# Altium integrated library Analog Devices Data Converters Analog-to-Digital Converters.IntLib: 2404 symbols (part 289 of 346)
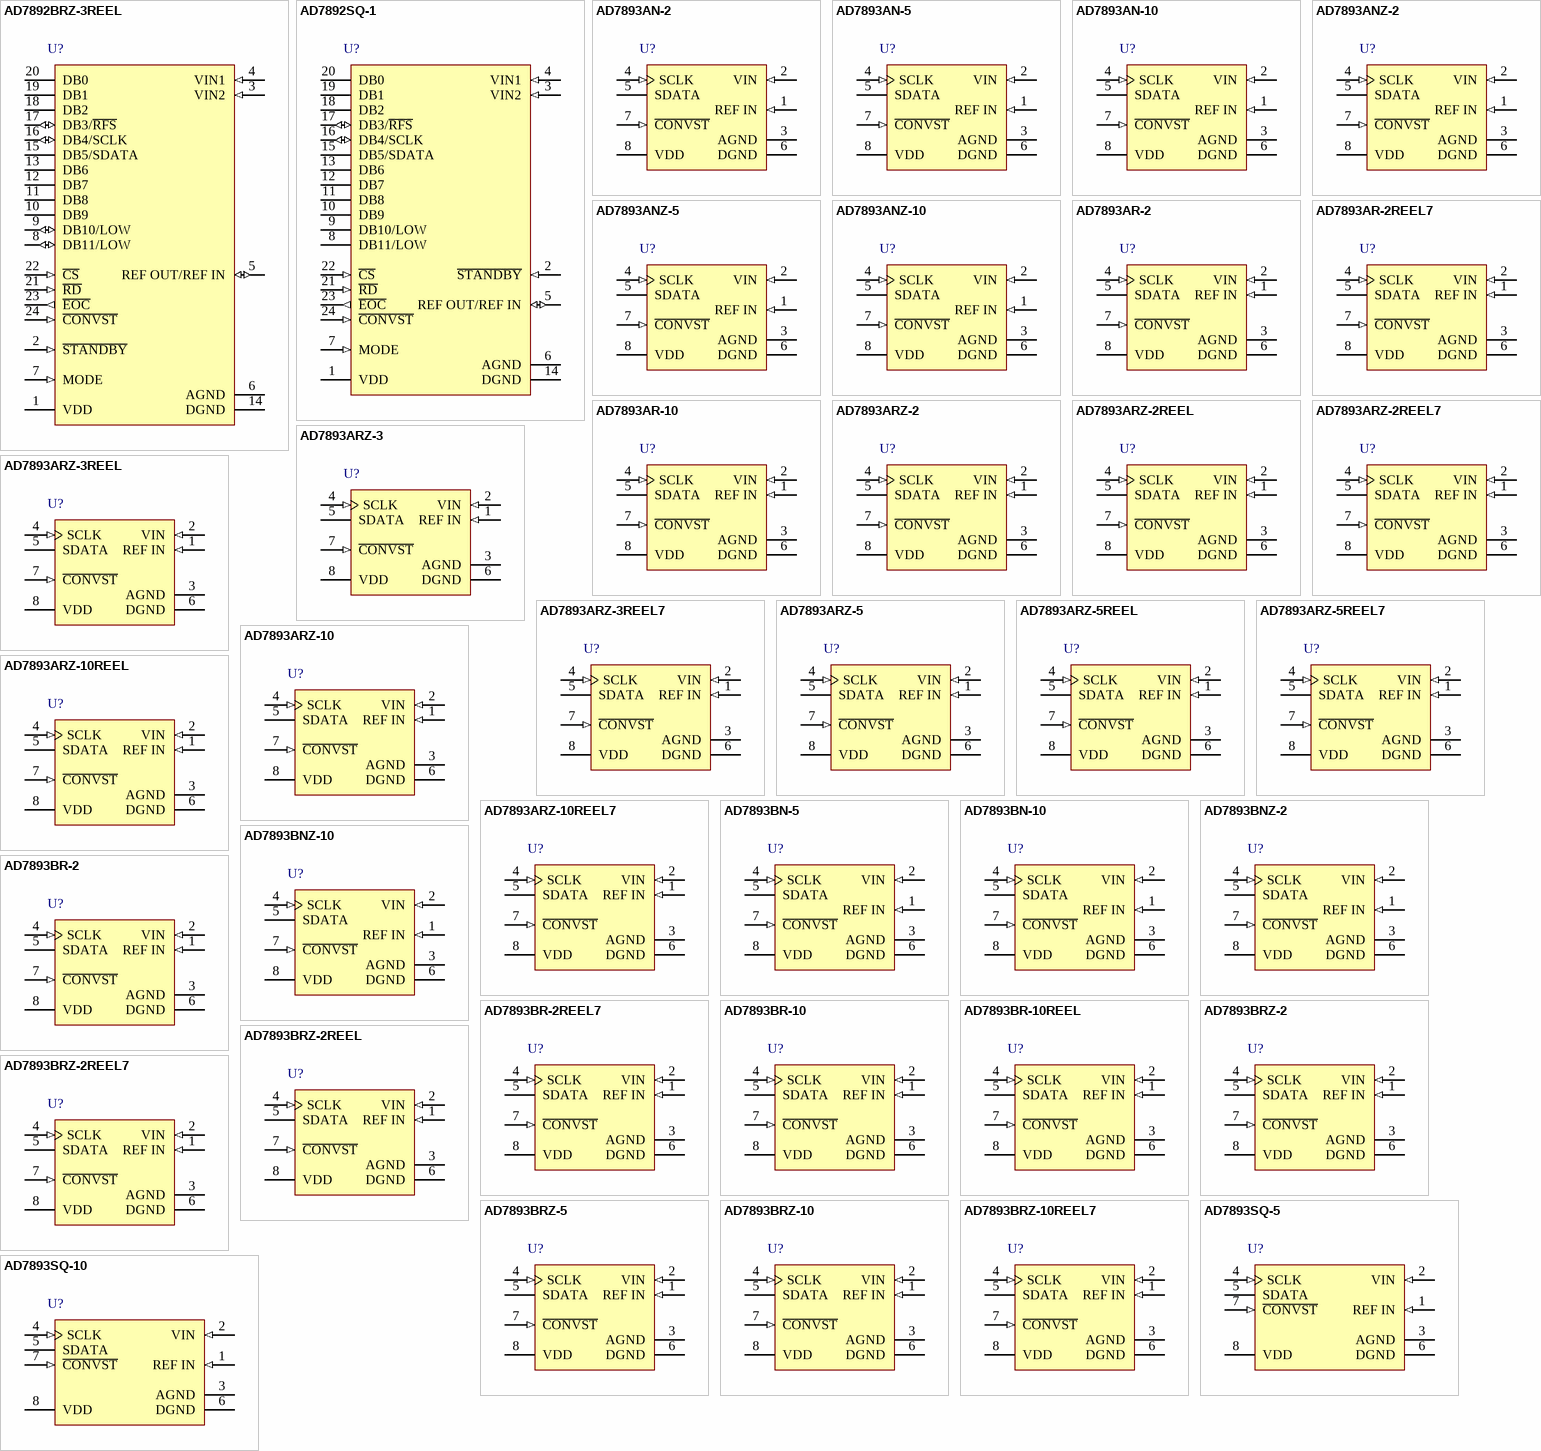
[diagram p310: symbols AD7892BRZ-3REEL to AD7893SQ-10]

## AD7892BRZ-3REEL
designator U?
Single 12-Bit Analog-to-Digital Converter with Parallel, Serial Interface, Single Supply, LC2MOS, 600KSPS, -40 to +85 degC, RW-24, Pb-Free, Reel; Generic Part Number: AD7892-3-600; Manufacturer: Analog Devices; PartNumber: AD7892BRZ-3REEL; Resolution (Bits): 12; Channels: 1; Throughput Rate (SPS): 600K; Interface: Par, Ser; DatasheetVersion: Rev.C; PackageVersion: 060706-A; PackageReference: RW-24; PackageDescription: 24-Lead Standard Small Outline Package [SOIC_W]; Supplier 1: Digi-Key; Supplier Part Number 1: AD7892BRZ-3REEL-ND; Supplier 2: Newark; Supplier Part Number 2: 59K5883; Supplier 3: Mouser; Supplier Part Number 3: 584-AD7892BRZ-3R; RoHS: Y; Packing: Reel; Mounting Technology: Surface Mount; Code_JEDEC: MS-013-AD; ComponentLink1Description: Manufacturer URL; ComponentLink1URL: http://www.analog.com/en/index.html; ComponentLink2Description: Datasheet; ComponentLink2URL: http://www.analog.com/static/imported-files/data_sheets/AD7892.pdf; ComponentLink3Description: Package Specification; ComponentLink3URL: http://www.analog.com/static/imported-files/packages/33665150946139RW_24.pdf; ComponentLink4Description: Product URL; ComponentLink4URL: http://www.analog.com/en/analog-to-digital-converters/ad-converters/ad7892/products/product.html
footprint RW-24_N (SOIC, 24-Leads, Body 15.4x7.5mm, Pitch 1.27mm, IPC Medium Density)
footprint RW-24_L (SOIC, 24-Leads, Body 15.4x7.5mm, Pitch 1.27mm, IPC High Density)
footprint RW-24_M (SOIC, 24-Leads, Body 15.4x7.5mm, Pitch 1.27mm, IPC Low Density)
pins: 1 VDD (power) "Positive Supply Voltage, +5 V +/- 5%.", 2 ~{STANDBY} (in) "Standby Input. Logic Input. With this input at a logic high, the part is in its normal operating mode; with this input at a logic low, the part is placed in its standby or power-down mode, which reduces power consumption to (See Datasheet)", 3 VIN2 (in) "Analog Input 2. For the AD7892-1, this input either connects to AGND or to VIN1 to determine the analog input voltage range. With VIN2 connected to AGND on the AD7892-1, the analog input range at the VIN1 input is +/-10 V. (See Datasheet)", 4 VIN1 (in) "Analog Input 1. The analog input voltage to be converted by the AD7892 is applied to this input.For the AD7892-1, the input voltage range is either +/-5 V or +/-10 V depending on where the VIN2 input is connected. For the (See Datasheet)", 5 REF OUT/REF IN (io) "Voltage Reference Output/Input. The part can be used with either its own internal reference or with an external reference source. The on-chip +2.5 V reference is provided at this pin. When using this internal reference as (See Datasheet)", 6 AGND (power) "Analog Ground. Ground reference for track/hold, comparator and DAC.", 7 MODE (in) "Mode. Control input which determines the interface mode for the AD7892. With this pin at a logic  low, the device is in its serial interface mode; with this pin at a logic high, the device is in its parallel interface mode,", 8 DB11/LOW (io) "Data Bit 11/Test Pin. When the device is in its parallel mode, this pin is Data Bit 11 (MSB), a three-state TTL-compatible output. When the device is in its serial mode, this is used as a test pin which must be tied to a (See Datasheet)", 9 DB10/LOW (io) "Data Bit 10/Test Pin. When the device is in its parallel mode, this pin is Data Bit 10, a three-state TTL-compatible output. When the device is in its serial mode, this is used as a test pin which must be tied to a logic low (See Datasheet)", 10 DB9 (hiz) "Data Bit 9. Three-state TTL-compatible output. This output should be left unconnected when the device is in its serial mode.", 11 DB8 (hiz) "Data Bit 8. Three-state TTL-compatible output. This output should be left unconnected when the device is in its serial mode.", 12 DB7 (hiz) "Data Bit 7. Three-state TTL-compatible output. This output should be left unconnected when the device is in its serial mode.", 13 DB6 (hiz) "Data Bit 6. Three-state TTL-compatible output. This output should be left unconnected when the device is in its serial mode", 14 DGND (power) "Digital Ground. Ground reference for digital circuitry.", 15 DB5/SDATA (hiz) "Data Bit 5/Serial Data. When the device is in its parallel mode, this pin is Data Bit 5, a three-state TTL-compatible output. When the device is in its serial mode, this becomes the serial data output line. Sixteen bits of (See Datasheet)", 16 DB4/SCLK (io) "Data Bit 4/Serial Clock. When the device is in its parallel mode, this pin is Data Bit 4, a three-state TTL-compatible output. When the device is in its serial mode, this becomes the serial clock pin,SCLK. SCLK is an input (See Datasheet)", 17 DB3/~{RFS} (io) "Data Bit 3/Receive Frame Synchronization. When the device is in its parallel mode, this pin is Data Bit 3, a three-state TTL-compatible output. When the device is in its serial mode, this becomes the receive frame (See Datasheet)", 18 DB2 (hiz) "Data Bit 2. Three-state TTL-compatible output. This output should be left unconnected when the device is in its serial mode.", 19 DB1 (hiz) "Data Bit 1. Three-state TTL-compatible output. This output should be left unconnected when the device is in its serial mode.", 20 DB0 (hiz) "Data Bit 0 (LSB). Three-state TTL-compatible output. Output coding is two's complement for AD7892-1 and AD7892-3 and straight (natural) binary for AD7892-2. This output should be left unconnected when the device is in its (See Datasheet)", 21 ~{RD} (in) "Read. Active low logic input which is used in conjunction with C\S\ low to enable the data outputs.", 22 ~{CS} (in) "Chip Select. Active low logic input which is used in conjunction with R\D\ to enable the data outputs.", 23 ~{EOC} (out) "End-of-Conversion. Active low logic output indicating converter status. The end of conversion is signified by a low going pulse on this line. The duration of this E\O\C\ pulse is nominally 100 ns.", 24 ~{CONVST} (in) "Convert Start. Logic Input. A low-to-high transition on this input puts the track/hold into its hold mode and starts conversion."

## AD7892SQ-1
designator U?
Single 12-Bit Analog-to-Digital Converter with Parallel, Serial Interface, Single Supply, 500KSPS, -55 to +125 degC, Q-24-1, Tube; Generic Part Number: AD7892-1-500; Manufacturer: Analog Devices; PartNumber: AD7892SQ-1; Resolution (Bits): 12; Channels: 1; Throughput Rate (SPS): 500K; Interface: Par, Ser; DatasheetVersion: Rev.C; PackageVersion: 100808-A; PackageReference: Q-24-1; PackageDescription: 24-Lead Ceramic Dual In-Line Package [CERDIP]; Supplier 1: Digi-Key; Supplier Part Number 1: AD7892SQ-1-ND; Supplier 2: Newark; Supplier Part Number 2: 09B6250; Supplier 3: Mouser; Supplier Part Number 3: 584-AD7892SQ-1; RoHS: N; Packing: Tube; Mounting Technology: Through-hole; ComponentLink1Description: Manufacturer URL; ComponentLink1URL: http://www.analog.com/en/index.html; ComponentLink2Description: Datasheet; ComponentLink2URL: http://www.analog.com/static/imported-files/data_sheets/AD7892.pdf; ComponentLink3Description: Package Specification; ComponentLink3URL: http://www.analog.com/static/imported-files/packages/PKG_PDF/CERDIP(Q)/Q_24_1.pdf; ComponentLink4Description: Product URL; ComponentLink4URL: http://www.analog.com/en/analog-to-digital-converters/ad-converters/ad7892/products/product.html
footprint Q-24-1 (DIP, 24-Leads, Row Spacing 7.62mm, Pitch 2.54mm, Body 31.9x6.7mm)
pins: 1 VDD (power) "Positive Supply Voltage, +5 V +/- 5%.", 2 ~{STANDBY} (in) "Standby Input. Logic Input. With this input at a logic high, the part is in its normal operating mode; with this input at a logic low, the part is placed in its standby or power-down mode, which reduces power consumption to (See Datasheet)", 3 VIN2 (in) "Analog Input 2. For the AD7892-1, this input either connects to AGND or to VIN1 to determine the analog input voltage range. With VIN2 connected to AGND on the AD7892-1, the analog input range at the VIN1 input is +/-10 V. (See Datasheet)", 4 VIN1 (in) "Analog Input 1. The analog input voltage to be converted by the AD7892 is applied to this input.For the AD7892-1, the input voltage range is either +/-5 V or +/-10 V depending on where the VIN2 input is connected. For the (See Datasheet)", 5 REF OUT/REF IN (io) "Voltage Reference Output/Input. The part can be used with either its own internal reference or with an external reference source. The on-chip +2.5 V reference is provided at this pin. When using this internal reference as (See Datasheet)", 6 AGND (power) "Analog Ground. Ground reference for track/hold, comparator and DAC.", 7 MODE (in) "Mode. Control input which determines the interface mode for the AD7892. With this pin at a logic low, the device is in its serial interface mode; with this pin at a logic high, the device is in its parallel interface mode.", 8 DB11/LOW (hiz) "Data Bit 11/Test Pin. When the device is in its parallel mode, this pin is Data Bit 11 (MSB), a three-state TTL-compatible output. When the device is in its serial mode, this is used as a test pin which must be tied to a (See Datasheet)", 9 DB10/LOW (hiz) "Data Bit 10/Test Pin. When the device is in its parallel mode, this pin is Data Bit 10, a three-state TTL-compatible output. When the device is in its serial mode, this is used as a test pin which must be tied to a logic low (See Datasheet)", 10 DB9 (hiz) "Data Bit 9. Three-state TTL-compatible output. This output should be left unconnected when the device is in its serial mode.", 11 DB8 (hiz) "Data Bit 8. Three-state TTL-compatible output. This output should be left unconnected when the device is in its serial mode.", 12 DB7 (hiz) "Data Bit 7. Three-state TTL-compatible output. This output should be left unconnected when the device is in its serial mode.", 13 DB6 (hiz) "Data Bit 6. Three-state TTL-compatible output. This output should be left unconnected when the device is in its serial mode.", 14 DGND (power) "Digital Ground. Ground reference for digital circuitry.", 15 DB5/SDATA (hiz) "Data Bit 5/Serial Data. When the device is in its parallel mode, this pin is Data Bit 5, a three-stateTTL-compatible output. When the device is in its serial mode, this becomes the serial data output line. Sixteen bits of (See Datasheet)", 16 DB4/SCLK (io) "Data Bit 4/Serial Clock. When the device is in its parallel mode, this pin is Data Bit 4, a three-state TTL-compatible output. When the device is in its serial mode, this becomes the serial clock pin, SCLK. SCLK is an input (See Datasheet)", 17 DB3/~{RFS} (io) "Data Bit 3/Receive Frame Synchronization. When the device is in its parallel mode, this pin is Data Bit 3, a three-state TTL-compatible output. When the device is in its serial mode, this becomes the receive frame (See Datasheet)", 18 DB2 (hiz) "Data Bit 2. Three-state TTL-compatible output. This output should be left unconnected when the device is in its serial mode.", 19 DB1 (hiz) "Data Bit 1. Three-state TTL-compatible output. This output should be left unconnected when the device is in its serial mode.", 20 DB0 (hiz) "Data Bit 0 (LSB). Three-state TTL-compatible output. Output coding is two’s complement for AD7892-1 and AD7892-3 and straight (natural) binary for AD7892-2. This output should be left unconnected when the device is in its (See Datasheet)", 21 ~{RD} (in) "Read. Active low logic input which is used in conjunction with C\S\ low to enable the data outputs.", 22 ~{CS} (in) "Chip Select. Active low logic input which is used in conjunction with R\D\ to enable the data outputs.", 23 ~{EOC} (out) "End-of-Conversion. Active low logic output indicating converter status. The end of conversion is signified by a low going pulse on this line. The duration of this E\O\C\ pulse is nominally 100 ns.", 24 ~{CONVST} (in) "Convert Start. Logic Input. A low-to-high transition on this input puts the track/hold into its hold mode and starts conversion."

## AD7893AN-2
designator U?
Single 12-Bit Analog-to-Digital Converter with Serial Interface, 6 us, LC2MOS, 117KSPS, 0 to +70 degC, N-8, Tube; Generic Part Number: AD7893; Manufacturer: Analog Devices; PartNumber: AD7893AN-2; Resolution (Bits): 12; Channels: 1; Throughput Rate (SPS): 117K; Interface: Ser; DatasheetVersion: Rev.E; PackageVersion: 070606-A; PackageReference: N-8; PackageDescription: 8-Lead Plastic Dual In-Line Package [PDIP] Narrow Body; Supplier 1: Digi-Key; Supplier Part Number 1: AD7893AN-2-ND; RoHS: N; Packing: Tube; Mounting Technology: Through-hole; Code_JEDEC: MS-001; ComponentLink1Description: Manufacturer URL; ComponentLink1URL: http://www.analog.com/en/index.html; ComponentLink2Description: Datasheet; ComponentLink2URL: http://www.analog.com/static/imported-files/data_sheets/AD7893.pdf; ComponentLink3Description: Package Specification; ComponentLink3URL: http://www.analog.com/static/imported-files/packages/PKG_PDF/PDIP(N)/N_8.pdf; ComponentLink4Description: Product URL; ComponentLink4URL: http://www.analog.com/en/analog-to-digital-converters/ad-converters/ad7893/products/product.html
footprint N-8 (DIP, 8-Leads, Row Spacing 7.62mm, Pitch 2.54mm, Body 9.6x6.6mm)
pins: 1 REF IN (in) "Voltage Reference Input. An external reference source should be connected to this pin to provide the reference voltage for the AD7893conversion process. The REF IN input is buffered on-chip. The nominal reference voltage (See Datasheet)", 2 VIN (in) "Analog Input Channel. The analog input range is +/-10 V (AD7893-10), +/-2.5 V (AD7893-3), 0 V to +5 V (AD7893-5) and 0 V to +2.5 V (AD7893-2).", 3 AGND (power) "Analog Ground. Ground reference for track/hold, comparator and DAC.", 4 SCLK (in) "Serial Clock Input. An external serial clock is applied to this input to obtain serial data from the AD7893. A new serial data bit is clocked out on the rising edge of this serial clock, and data is valid on the falling edge.(See Datasheet)", 5 SDATA (hiz) "Serial Data Output. Serial data from the AD7893 is provided at this output. The serial data is clocked out by the rising edge of SCLK and is valid on the falling edge of SCLK. Sixteen bits of serial data are provided with (See Datasheet)", 6 DGND (power) "Digital Ground. Ground reference for digital circuitry.", 7 ~{CONVST} (in) "Convert Start. Edge-triggered logic input. On the falling edge of this input, the serial clock counter is reset to zero. On the rising edge of this input, the track/hold goes into its hold mode and conversion is initiated.", 8 VDD (power) "Positive supply voltage, +5 V +/- 5%."

## AD7893AN-5
designator U?
Single 12-Bit Analog-to-Digital Converter with Serial Interface, 6 us, LC2MOS, 117KSPS, -40 to +85 degC, N-8, Tube; Generic Part Number: AD7893; Manufacturer: Analog Devices; PartNumber: AD7893AN-5; Resolution (Bits): 12; Channels: 1; Throughput Rate (SPS): 117K; Interface: Ser; DatasheetVersion: Rev.E; PackageVersion: 070606-A; PackageReference: N-8; PackageDescription: 8-Lead Plastic Dual In-Line Package [PDIP] Narrow Body; Supplier 1: Digi-Key; Supplier Part Number 1: AD7893AN-5-ND; Supplier 2: Mouser; Supplier Part Number 2: 584-AD7893AN-5; RoHS: N; Packing: Tube; Mounting Technology: Through-hole; Code_JEDEC: MS-001; ComponentLink1Description: Manufacturer URL; ComponentLink1URL: http://www.analog.com/en/index.html; ComponentLink2Description: Datasheet; ComponentLink2URL: http://www.analog.com/static/imported-files/data_sheets/AD7893.pdf; ComponentLink3Description: Package Specification; ComponentLink3URL: http://www.analog.com/static/imported-files/packages/PKG_PDF/PDIP(N)/N_8.pdf; ComponentLink4Description: Product URL; ComponentLink4URL: http://www.analog.com/en/analog-to-digital-converters/ad-converters/ad7893/products/product.html
footprint N-8 (DIP, 8-Leads, Row Spacing 7.62mm, Pitch 2.54mm, Body 9.6x6.6mm)
pins: 1 REF IN (in) "Voltage Reference Input. An external reference source should be connected to this pin to provide the reference voltage for the AD7893conversion process. The REF IN input is buffered on-chip. The nominal reference voltage (See Datasheet)", 2 VIN (in) "Analog Input Channel. The analog input range is +/-10 V (AD7893-10), +/-2.5 V (AD7893-3), 0 V to +5 V (AD7893-5) and 0 V to +2.5 V (AD7893-2).", 3 AGND (power) "Analog Ground. Ground reference for track/hold, comparator and DAC.", 4 SCLK (in) "Serial Clock Input. An external serial clock is applied to this input to obtain serial data from the AD7893. A new serial data bit is clocked out on the rising edge of this serial clock, and data is valid on the falling edge.(See Datasheet)", 5 SDATA (hiz) "Serial Data Output. Serial data from the AD7893 is provided at this output. The serial data is clocked out by the rising edge of SCLK and is valid on the falling edge of SCLK. Sixteen bits of serial data are provided with (See Datasheet)", 6 DGND (power) "Digital Ground. Ground reference for digital circuitry.", 7 ~{CONVST} (in) "Convert Start. Edge-triggered logic input. On the falling edge of this input, the serial clock counter is reset to zero. On the rising edge of this input, the track/hold goes into its hold mode and conversion is initiated.", 8 VDD (power) "Positive supply voltage, +5 V +/- 5%."

## AD7893AN-10
designator U?
Single 12-Bit Analog-to-Digital Converter with Serial Interface, 6 us, LC2MOS, 117KSPS, -40 to +85 degC, N-8, Tube; Generic Part Number: AD7893; Manufacturer: Analog Devices; PartNumber: AD7893AN-10; Resolution (Bits): 12; Channels: 1; Throughput Rate (SPS): 117K; Interface: Ser; DatasheetVersion: Rev.E; PackageVersion: 070606-A; PackageReference: N-8; PackageDescription: 8-Lead Plastic Dual In-Line Package [PDIP] Narrow Body; Supplier 1: Digi-Key; Supplier Part Number 1: AD7893AN-10-ND; Supplier 2: Newark; Supplier Part Number 2: 05F7652; Supplier 3: Mouser; Supplier Part Number 3: 584-AD7893AN-10; RoHS: N; Packing: Tube; Mounting Technology: Through-hole; Code_JEDEC: MS-001; ComponentLink1Description: Manufacturer URL; ComponentLink1URL: http://www.analog.com/en/index.html; ComponentLink2Description: Datasheet; ComponentLink2URL: http://www.analog.com/static/imported-files/data_sheets/AD7893.pdf; ComponentLink3Description: Package Specification; ComponentLink3URL: http://www.analog.com/static/imported-files/packages/PKG_PDF/PDIP(N)/N_8.pdf; ComponentLink4Description: Product URL; ComponentLink4URL: http://www.analog.com/en/analog-to-digital-converters/ad-converters/ad7893/products/product.html
footprint N-8 (DIP, 8-Leads, Row Spacing 7.62mm, Pitch 2.54mm, Body 9.6x6.6mm)
pins: 1 REF IN (in) "Voltage Reference Input. An external reference source should be connected to this pin to provide the reference voltage for the AD7893conversion process. The REF IN input is buffered on-chip. The nominal reference voltage (See Datasheet)", 2 VIN (in) "Analog Input Channel. The analog input range is +/-10 V (AD7893-10), +/-2.5 V (AD7893-3), 0 V to +5 V (AD7893-5) and 0 V to +2.5 V (AD7893-2).", 3 AGND (power) "Analog Ground. Ground reference for track/hold, comparator and DAC.", 4 SCLK (in) "Serial Clock Input. An external serial clock is applied to this input to obtain serial data from the AD7893. A new serial data bit is clocked out on the rising edge of this serial clock, and data is valid on the falling edge.(See Datasheet)", 5 SDATA (hiz) "Serial Data Output. Serial data from the AD7893 is provided at this output. The serial data is clocked out by the rising edge of SCLK and is valid on the falling edge of SCLK. Sixteen bits of serial data are provided with (See Datasheet)", 6 DGND (power) "Digital Ground. Ground reference for digital circuitry.", 7 ~{CONVST} (in) "Convert Start. Edge-triggered logic input. On the falling edge of this input, the serial clock counter is reset to zero. On the rising edge of this input, the track/hold goes into its hold mode and conversion is initiated.", 8 VDD (power) "Positive supply voltage, +5 V +/- 5%."

## AD7893ANZ-2
designator U?
Single 12-Bit Analog-to-Digital Converter with Serial Interface, 6 us, LC2MOS, 117KSPS, 0 to +70 degC, N-8, Pb-Free, Tube; Generic Part Number: AD7893; Manufacturer: Analog Devices; PartNumber: AD7893ANZ-2; Resolution (Bits): 12; Channels: 1; Throughput Rate (SPS): 117K; Interface: Ser; DatasheetVersion: Rev.E; PackageVersion: 070606-A; PackageReference: N-8; PackageDescription: 8-Lead Plastic Dual In-Line Package [PDIP] Narrow Body; Supplier 1: Digi-Key; Supplier Part Number 1: AD7893ANZ-2-ND; Supplier 2: Farnell; Supplier Part Number 2: 2312725; Supplier 3: Newark; Supplier Part Number 3: 12M9001; Supplier 4: Mouser; Supplier Part Number 4: 584-AD7893ANZ-2; RoHS: Y; Packing: Tube; Mounting Technology: Through-hole; Code_JEDEC: MS-001; ComponentLink1Description: Manufacturer URL; ComponentLink1URL: http://www.analog.com/en/index.html; ComponentLink2Description: Datasheet; ComponentLink2URL: http://www.analog.com/static/imported-files/data_sheets/AD7893.pdf; ComponentLink3Description: Package Specification; ComponentLink3URL: http://www.analog.com/static/imported-files/packages/PKG_PDF/PDIP(N)/N_8.pdf; ComponentLink4Description: Product URL; ComponentLink4URL: http://www.analog.com/en/analog-to-digital-converters/ad-converters/ad7893/products/product.html
footprint N-8 (DIP, 8-Leads, Row Spacing 7.62mm, Pitch 2.54mm, Body 9.6x6.6mm)
pins: 1 REF IN (in) "Voltage Reference Input. An external reference source should be connected to this pin to provide the reference voltage for the AD7893conversion process. The REF IN input is buffered on-chip. The nominal reference voltage (See Datasheet)", 2 VIN (in) "Analog Input Channel. The analog input range is +/-10 V (AD7893-10), +/-2.5 V (AD7893-3), 0 V to +5 V (AD7893-5) and 0 V to +2.5 V (AD7893-2).", 3 AGND (power) "Analog Ground. Ground reference for track/hold, comparator and DAC.", 4 SCLK (in) "Serial Clock Input. An external serial clock is applied to this input to obtain serial data from the AD7893. A new serial data bit is clocked out on the rising edge of this serial clock, and data is valid on the falling edge.(See Datasheet)", 5 SDATA (hiz) "Serial Data Output. Serial data from the AD7893 is provided at this output. The serial data is clocked out by the rising edge of SCLK and is valid on the falling edge of SCLK. Sixteen bits of serial data are provided with (See Datasheet)", 6 DGND (power) "Digital Ground. Ground reference for digital circuitry.", 7 ~{CONVST} (in) "Convert Start. Edge-triggered logic input. On the falling edge of this input, the serial clock counter is reset to zero. On the rising edge of this input, the track/hold goes into its hold mode and conversion is initiated.", 8 VDD (power) "Positive supply voltage, +5 V +/- 5%."

## AD7893ANZ-5
designator U?
Single 12-Bit Analog-to-Digital Converter with Serial Interface, 6 us, LC2MOS, 117KSPS, -40 to +85 degC, N-8, Pb-Free, Tube; Generic Part Number: AD7893; Manufacturer: Analog Devices; PartNumber: AD7893ANZ-5; Resolution (Bits): 12; Channels: 1; Throughput Rate (SPS): 117K; Interface: Ser; DatasheetVersion: Rev.E; PackageVersion: 070606-A; PackageReference: N-8; PackageDescription: 8-Lead Plastic Dual In-Line Package [PDIP] Narrow Body; Supplier 1: Digi-Key; Supplier Part Number 1: AD7893ANZ-5-ND; Supplier 2: Mouser; Supplier Part Number 2: 584-AD7893ANZ-5; RoHS: Y; Packing: Tube; Mounting Technology: Through-hole; Code_JEDEC: MS-001; ComponentLink1Description: Manufacturer URL; ComponentLink1URL: http://www.analog.com/en/index.html; ComponentLink2Description: Datasheet; ComponentLink2URL: http://www.analog.com/static/imported-files/data_sheets/AD7893.pdf; ComponentLink3Description: Package Specification; ComponentLink3URL: http://www.analog.com/static/imported-files/packages/PKG_PDF/PDIP(N)/N_8.pdf; ComponentLink4Description: Product URL; ComponentLink4URL: http://www.analog.com/en/analog-to-digital-converters/ad-converters/ad7893/products/product.html
footprint N-8 (DIP, 8-Leads, Row Spacing 7.62mm, Pitch 2.54mm, Body 9.6x6.6mm)
pins: 1 REF IN (in) "Voltage Reference Input. An external reference source should be connected to this pin to provide the reference voltage for the AD7893conversion process. The REF IN input is buffered on-chip. The nominal reference voltage (See Datasheet)", 2 VIN (in) "Analog Input Channel. The analog input range is +/-10 V (AD7893-10), +/-2.5 V (AD7893-3), 0 V to +5 V (AD7893-5) and 0 V to +2.5 V (AD7893-2).", 3 AGND (power) "Analog Ground. Ground reference for track/hold, comparator and DAC.", 4 SCLK (in) "Serial Clock Input. An external serial clock is applied to this input to obtain serial data from the AD7893. A new serial data bit is clocked out on the rising edge of this serial clock, and data is valid on the falling edge.(See Datasheet)", 5 SDATA (hiz) "Serial Data Output. Serial data from the AD7893 is provided at this output. The serial data is clocked out by the rising edge of SCLK and is valid on the falling edge of SCLK. Sixteen bits of serial data are provided with (See Datasheet)", 6 DGND (power) "Digital Ground. Ground reference for digital circuitry.", 7 ~{CONVST} (in) "Convert Start. Edge-triggered logic input. On the falling edge of this input, the serial clock counter is reset to zero. On the rising edge of this input, the track/hold goes into its hold mode and conversion is initiated.", 8 VDD (power) "Positive supply voltage, +5 V +/- 5%."

## AD7893ANZ-10
designator U?
Single 12-Bit Analog-to-Digital Converter with Serial Interface, 6 us, LC2MOS, 117KSPS, -40 to +85 degC, N-8, Pb-Free, Tube; Generic Part Number: AD7893; Manufacturer: Analog Devices; PartNumber: AD7893ANZ-10; Resolution (Bits): 12; Channels: 1; Throughput Rate (SPS): 117K; Interface: Ser; DatasheetVersion: Rev.E; PackageVersion: 070606-A; PackageReference: N-8; PackageDescription: 8-Lead Plastic Dual In-Line Package [PDIP] Narrow Body; Supplier 1: Digi-Key; Supplier Part Number 1: AD7893ANZ-10-ND; Supplier 2: Newark; Supplier Part Number 2: 12M9000; Supplier 3: Mouser; Supplier Part Number 3: 584-AD7893ANZ-10; RoHS: Y; Packing: Tube; Mounting Technology: Through-hole; Code_JEDEC: MS-001; ComponentLink1Description: Manufacturer URL; ComponentLink1URL: http://www.analog.com/en/index.html; ComponentLink2Description: Datasheet; ComponentLink2URL: http://www.analog.com/static/imported-files/data_sheets/AD7893.pdf; ComponentLink3Description: Package Specification; ComponentLink3URL: http://www.analog.com/static/imported-files/packages/PKG_PDF/PDIP(N)/N_8.pdf; ComponentLink4Description: Product URL; ComponentLink4URL: http://www.analog.com/en/analog-to-digital-converters/ad-converters/ad7893/products/product.html
footprint N-8 (DIP, 8-Leads, Row Spacing 7.62mm, Pitch 2.54mm, Body 9.6x6.6mm)
pins: 1 REF IN (in) "Voltage Reference Input. An external reference source should be connected to this pin to provide the reference voltage for the AD7893conversion process. The REF IN input is buffered on-chip. The nominal reference voltage (See Datasheet)", 2 VIN (in) "Analog Input Channel. The analog input range is +/-10 V (AD7893-10), +/-2.5 V (AD7893-3), 0 V to +5 V (AD7893-5) and 0 V to +2.5 V (AD7893-2).", 3 AGND (power) "Analog Ground. Ground reference for track/hold, comparator and DAC.", 4 SCLK (in) "Serial Clock Input. An external serial clock is applied to this input to obtain serial data from the AD7893. A new serial data bit is clocked out on the rising edge of this serial clock, and data is valid on the falling edge.(See Datasheet)", 5 SDATA (hiz) "Serial Data Output. Serial data from the AD7893 is provided at this output. The serial data is clocked out by the rising edge of SCLK and is valid on the falling edge of SCLK. Sixteen bits of serial data are provided with (See Datasheet)", 6 DGND (power) "Digital Ground. Ground reference for digital circuitry.", 7 ~{CONVST} (in) "Convert Start. Edge-triggered logic input. On the falling edge of this input, the serial clock counter is reset to zero. On the rising edge of this input, the track/hold goes into its hold mode and conversion is initiated.", 8 VDD (power) "Positive supply voltage, +5 V +/- 5%."

## AD7893AR-2
designator U?
Single 12-Bit Analog-to-Digital Converter with Serial Interface, 6 us, LC2MOS, 117KSPS, 0 to +70 degC, R-8, Tube; Generic Part Number: AD7893; Manufacturer: Analog Devices; PartNumber: AD7893AR-2; Resolution (Bits): 12; Channels: 1; Throughput Rate (SPS): 117K; Interface: Ser; DatasheetVersion: Rev.E; PackageVersion: 060506-A; PackageReference: R-8; PackageDescription: 8-Lead Standard Small Outline Package [SOIC_N] Narrow Body; Supplier 1: Digi-Key; Supplier Part Number 1: AD7893AR-2-ND; Supplier 2: Mouser; Supplier Part Number 2: 584-AD7893AR-2; RoHS: N; Packing: Tube; Mounting Technology: Surface Mount; Code_JEDEC: MS-012-AA; Code_IPC: SOIC127P600-8; ComponentLink1Description: Manufacturer URL; ComponentLink1URL: http://www.analog.com/en/index.html; ComponentLink2Description: Datasheet; ComponentLink2URL: http://www.analog.com/static/imported-files/data_sheets/AD7893.pdf; ComponentLink3Description: Package Specification; ComponentLink3URL: http://www.analog.com/static/imported-files/packages/PKG_PDF/SOIC_Narrow%20(R)/R_8.pdf; ComponentLink4Description: Product URL; ComponentLink4URL: http://www.analog.com/en/analog-to-digital-converters/ad-converters/ad7893/products/product.html
footprint R-8_N (SOIC, 8-Leads, Body 4.9x3.9mm, Pitch 1.27mm, IPC Medium Density)
footprint R-8_L (SOIC, 8-Leads, Body 4.9x3.9mm, Pitch 1.27mm, IPC High Density)
footprint R-8_M (SOIC, 8-Leads, Body 4.9x3.9mm, Pitch 1.27mm, IPC Low Density)
pins: 1 REF IN (in) "Voltage Reference Input. An external reference source should be connected to this pin to provide the reference voltage for the AD7893’s conversion process. The REF IN input is buffered on-chip. The nominal reference voltage (See Datasheet)", 2 VIN (in) "Analog Input Channel. The analog input range is +/-10 V (AD7893-10), +/-2.5 V (AD7893-3), 0 V to +5 V (AD7893-5) and 0 V to +2.5 V (AD7893-2).", 3 AGND (power) "Analog Ground. Ground reference for track/hold, comparator and DAC", 4 SCLK (in) "Serial Clock Input. An external serial clock is applied to this input to obtain serial data from the AD7893. A new serial data bit is clocked out on the rising edge of this serial clock, and data is valid on the falling edge.(See Datasheet)", 5 SDATA (hiz) "Serial Data Output. Serial data from the AD7893 is provided at this output. The serial data is clocked out by the rising edge of SCLK and is valid on the falling edge of SCLK. Sixteen bits of serial data are provided with (See Datasheet)", 6 DGND (power) "Digital Ground. Ground reference for digital circuitry.", 7 ~{CONVST} (in) "Convert Start. Edge-triggered logic input. On the falling edge of this input, the serial clock counter is reset to zero. On the rising edge of this input, the track/hold goes into its hold mode and conversion is initiated.", 8 VDD (power) "Positive supply voltage, +5 V +/- 5%"

## AD7893AR-2REEL7
designator U?
Single 12-Bit Analog-to-Digital Converter with Serial Interface, 6 us, LC2MOS, 117KSPS, 0 to +70 degC, R-8, Reel; Generic Part Number: AD7893; Manufacturer: Analog Devices; PartNumber: AD7893AR-2REEL7; Resolution (Bits): 12; Channels: 1; Throughput Rate (SPS): 117K; Interface: Ser; DatasheetVersion: Rev.E; PackageVersion: 060506-A; PackageReference: R-8; PackageDescription: 8-Lead Standard Small Outline Package [SOIC_N] Narrow Body; Supplier 1: Digi-Key; Supplier Part Number 1: AD7893AR-2REEL7-ND; Supplier 2: Mouser; Supplier Part Number 2: 584-AD7893AR-2R7; RoHS: N; Packing: Reel; Mounting Technology: Surface Mount; Code_JEDEC: MS-012-AA; Code_IPC: SOIC127P600-8; ComponentLink1Description: Manufacturer URL; ComponentLink1URL: http://www.analog.com/en/index.html; ComponentLink2Description: Datasheet; ComponentLink2URL: http://www.analog.com/static/imported-files/data_sheets/AD7893.pdf; ComponentLink3Description: Package Specification; ComponentLink3URL: http://www.analog.com/static/imported-files/packages/PKG_PDF/SOIC_Narrow%20(R)/R_8.pdf; ComponentLink4Description: Product URL; ComponentLink4URL: http://www.analog.com/en/analog-to-digital-converters/ad-converters/ad7893/products/product.html
footprint R-8_N (SOIC, 8-Leads, Body 4.9x3.9mm, Pitch 1.27mm, IPC Medium Density)
footprint R-8_L (SOIC, 8-Leads, Body 4.9x3.9mm, Pitch 1.27mm, IPC High Density)
footprint R-8_M (SOIC, 8-Leads, Body 4.9x3.9mm, Pitch 1.27mm, IPC Low Density)
pins: 1 REF IN (in) "Voltage Reference Input. An external reference source should be connected to this pin to provide the reference voltage for the AD7893’s conversion process. The REF IN input is buffered on-chip. The nominal reference voltage (See Datasheet)", 2 VIN (in) "Analog Input Channel. The analog input range is +/-10 V (AD7893-10), +/-2.5 V (AD7893-3), 0 V to +5 V (AD7893-5) and 0 V to +2.5 V (AD7893-2).", 3 AGND (power) "Analog Ground. Ground reference for track/hold, comparator and DAC", 4 SCLK (in) "Serial Clock Input. An external serial clock is applied to this input to obtain serial data from the AD7893. A new serial data bit is clocked out on the rising edge of this serial clock, and data is valid on the falling edge.(See Datasheet)", 5 SDATA (hiz) "Serial Data Output. Serial data from the AD7893 is provided at this output. The serial data is clocked out by the rising edge of SCLK and is valid on the falling edge of SCLK. Sixteen bits of serial data are provided with (See Datasheet)", 6 DGND (power) "Digital Ground. Ground reference for digital circuitry.", 7 ~{CONVST} (in) "Convert Start. Edge-triggered logic input. On the falling edge of this input, the serial clock counter is reset to zero. On the rising edge of this input, the track/hold goes into its hold mode and conversion is initiated.", 8 VDD (power) "Positive supply voltage, +5 V +/- 5%"

## AD7893AR-10
designator U?
Single 12-Bit Analog-to-Digital Converter with Serial Interface, 6 us, LC2MOS, 117KSPS, 0 to +70 degC, R-8, Tube; Generic Part Number: AD7893; Manufacturer: Analog Devices; PartNumber: AD7893AR-10; Resolution (Bits): 12; Channels: 1; Throughput Rate (SPS): 117K; Interface: Ser; DatasheetVersion: Rev.E; PackageVersion: 060506-A; PackageReference: R-8; PackageDescription: 8-Lead Standard Small Outline Package [SOIC_N] Narrow Body; Supplier 1: Digi-Key; Supplier Part Number 1: AD7893AR-10-ND; Supplier 2: Newark; Supplier Part Number 2: 66F5904; Supplier 3: Mouser; Supplier Part Number 3: 584-AD7893AR-10; RoHS: N; Packing: Tube; Mounting Technology: Surface Mount; Code_JEDEC: MS-012-AA; Code_IPC: SOIC127P600-8; ComponentLink1Description: Manufacturer URL; ComponentLink1URL: http://www.analog.com/en/index.html; ComponentLink2Description: Datasheet; ComponentLink2URL: http://www.analog.com/static/imported-files/data_sheets/AD7893.pdf; ComponentLink3Description: Package Specification; ComponentLink3URL: http://www.analog.com/static/imported-files/packages/PKG_PDF/SOIC_Narrow%20(R)/R_8.pdf; ComponentLink4Description: Product URL; ComponentLink4URL: http://www.analog.com/en/analog-to-digital-converters/ad-converters/ad7893/products/product.html
footprint R-8_N (SOIC, 8-Leads, Body 4.9x3.9mm, Pitch 1.27mm, IPC Medium Density)
footprint R-8_L (SOIC, 8-Leads, Body 4.9x3.9mm, Pitch 1.27mm, IPC High Density)
footprint R-8_M (SOIC, 8-Leads, Body 4.9x3.9mm, Pitch 1.27mm, IPC Low Density)
pins: 1 REF IN (in) "Voltage Reference Input. An external reference source should be connected to this pin to provide the reference voltage for the AD7893’s conversion process. The REF IN input is buffered on-chip. The nominal reference voltage (See Datasheet)", 2 VIN (in) "Analog Input Channel. The analog input range is +/-10 V (AD7893-10), +/-2.5 V (AD7893-3), 0 V to +5 V (AD7893-5) and 0 V to +2.5 V (AD7893-2).", 3 AGND (power) "Analog Ground. Ground reference for track/hold, comparator and DAC", 4 SCLK (in) "Serial Clock Input. An external serial clock is applied to this input to obtain serial data from the AD7893. A new serial data bit is clocked out on the rising edge of this serial clock, and data is valid on the falling edge.(See Datasheet)", 5 SDATA (hiz) "Serial Data Output. Serial data from the AD7893 is provided at this output. The serial data is clocked out by the rising edge of SCLK and is valid on the falling edge of SCLK. Sixteen bits of serial data are provided with (See Datasheet)", 6 DGND (power) "Digital Ground. Ground reference for digital circuitry.", 7 ~{CONVST} (in) "Convert Start. Edge-triggered logic input. On the falling edge of this input, the serial clock counter is reset to zero. On the rising edge of this input, the track/hold goes into its hold mode and conversion is initiated.", 8 VDD (power) "Positive supply voltage, +5 V +/- 5%"

## AD7893ARZ-2
designator U?
Single 12-Bit Analog-to-Digital Converter with Serial Interface, 6 us, LC2MOS, 117KSPS, 0 to +70 degC, R-8, Pb-Free, Tube; Generic Part Number: AD7893; Manufacturer: Analog Devices; PartNumber: AD7893ARZ-2; Resolution (Bits): 12; Channels: 1; Throughput Rate (SPS): 117K; Interface: Ser; DatasheetVersion: Rev.E; PackageVersion: 060506-A; PackageReference: R-8; PackageDescription: 8-Lead Standard Small Outline Package [SOIC_N] Narrow Body; Supplier 1: Digi-Key; Supplier Part Number 1: AD7893ARZ-2-ND; Supplier 2: Newark; Supplier Part Number 2: 59K5887; Supplier 3: Mouser; Supplier Part Number 3: 584-AD7893ARZ-2; RoHS: Y; Packing: Tube; Mounting Technology: Surface Mount; Code_JEDEC: MS-012-AA; Code_IPC: SOIC127P600-8; ComponentLink1Description: Manufacturer URL; ComponentLink1URL: http://www.analog.com/en/index.html; ComponentLink2Description: Datasheet; ComponentLink2URL: http://www.analog.com/static/imported-files/data_sheets/AD7893.pdf; ComponentLink3Description: Package Specification; ComponentLink3URL: http://www.analog.com/static/imported-files/packages/PKG_PDF/SOIC_Narrow%20(R)/R_8.pdf; ComponentLink4Description: Product URL; ComponentLink4URL: http://www.analog.com/en/analog-to-digital-converters/ad-converters/ad7893/products/product.html
footprint R-8_N (SOIC, 8-Leads, Body 4.9x3.9mm, Pitch 1.27mm, IPC Medium Density)
footprint R-8_L (SOIC, 8-Leads, Body 4.9x3.9mm, Pitch 1.27mm, IPC High Density)
footprint R-8_M (SOIC, 8-Leads, Body 4.9x3.9mm, Pitch 1.27mm, IPC Low Density)
pins: 1 REF IN (in) "Voltage Reference Input. An external reference source should be connected to this pin to provide the reference voltage for the AD7893’s conversion process. The REF IN input is buffered on-chip. The nominal reference voltage (See Datasheet)", 2 VIN (in) "Analog Input Channel. The analog input range is +/-10 V (AD7893-10), +/-2.5 V (AD7893-3), 0 V to +5 V (AD7893-5) and 0 V to +2.5 V (AD7893-2).", 3 AGND (power) "Analog Ground. Ground reference for track/hold, comparator and DAC", 4 SCLK (in) "Serial Clock Input. An external serial clock is applied to this input to obtain serial data from the AD7893. A new serial data bit is clocked out on the rising edge of this serial clock, and data is valid on the falling edge.(See Datasheet)", 5 SDATA (hiz) "Serial Data Output. Serial data from the AD7893 is provided at this output. The serial data is clocked out by the rising edge of SCLK and is valid on the falling edge of SCLK. Sixteen bits of serial data are provided with (See Datasheet)", 6 DGND (power) "Digital Ground. Ground reference for digital circuitry.", 7 ~{CONVST} (in) "Convert Start. Edge-triggered logic input. On the falling edge of this input, the serial clock counter is reset to zero. On the rising edge of this input, the track/hold goes into its hold mode and conversion is initiated.", 8 VDD (power) "Positive supply voltage, +5 V +/- 5%"

## AD7893ARZ-2REEL
designator U?
Single 12-Bit Analog-to-Digital Converter with Serial Interface, 6 us, LC2MOS, 117KSPS, 0 to +70 degC, R-8, Pb-Free, Reel; Generic Part Number: AD7893; Manufacturer: Analog Devices; PartNumber: AD7893ARZ-2REEL; Resolution (Bits): 12; Channels: 1; Throughput Rate (SPS): 117K; Interface: Ser; DatasheetVersion: Rev.E; PackageVersion: 060506-A; PackageReference: R-8; PackageDescription: 8-Lead Standard Small Outline Package [SOIC_N] Narrow Body; Supplier 1: Digi-Key; Supplier Part Number 1: AD7893ARZ-2REEL-ND; Supplier 2: Mouser; Supplier Part Number 2: 584-AD7893ARZ-2R; RoHS: Y; Packing: Reel; Mounting Technology: Surface Mount; Code_JEDEC: MS-012-AA; Code_IPC: SOIC127P600-8; ComponentLink1Description: Manufacturer URL; ComponentLink1URL: http://www.analog.com/en/index.html; ComponentLink2Description: Datasheet; ComponentLink2URL: http://www.analog.com/static/imported-files/data_sheets/AD7893.pdf; ComponentLink3Description: Package Specification; ComponentLink3URL: http://www.analog.com/static/imported-files/packages/PKG_PDF/SOIC_Narrow%20(R)/R_8.pdf; ComponentLink4Description: Product URL; ComponentLink4URL: http://www.analog.com/en/analog-to-digital-converters/ad-converters/ad7893/products/product.html
footprint R-8_N (SOIC, 8-Leads, Body 4.9x3.9mm, Pitch 1.27mm, IPC Medium Density)
footprint R-8_L (SOIC, 8-Leads, Body 4.9x3.9mm, Pitch 1.27mm, IPC High Density)
footprint R-8_M (SOIC, 8-Leads, Body 4.9x3.9mm, Pitch 1.27mm, IPC Low Density)
pins: 1 REF IN (in) "Voltage Reference Input. An external reference source should be connected to this pin to provide the reference voltage for the AD7893’s conversion process. The REF IN input is buffered on-chip. The nominal reference voltage (See Datasheet)", 2 VIN (in) "Analog Input Channel. The analog input range is +/-10 V (AD7893-10), +/-2.5 V (AD7893-3), 0 V to +5 V (AD7893-5) and 0 V to +2.5 V (AD7893-2).", 3 AGND (power) "Analog Ground. Ground reference for track/hold, comparator and DAC", 4 SCLK (in) "Serial Clock Input. An external serial clock is applied to this input to obtain serial data from the AD7893. A new serial data bit is clocked out on the rising edge of this serial clock, and data is valid on the falling edge.(See Datasheet)", 5 SDATA (hiz) "Serial Data Output. Serial data from the AD7893 is provided at this output. The serial data is clocked out by the rising edge of SCLK and is valid on the falling edge of SCLK. Sixteen bits of serial data are provided with (See Datasheet)", 6 DGND (power) "Digital Ground. Ground reference for digital circuitry.", 7 ~{CONVST} (in) "Convert Start. Edge-triggered logic input. On the falling edge of this input, the serial clock counter is reset to zero. On the rising edge of this input, the track/hold goes into its hold mode and conversion is initiated.", 8 VDD (power) "Positive supply voltage, +5 V +/- 5%"

## AD7893ARZ-2REEL7
designator U?
Single 12-Bit Analog-to-Digital Converter with Serial Interface, 6 us, LC2MOS, 117KSPS, 0 to +70 degC, R-8, Pb-Free, Reel; Generic Part Number: AD7893; Manufacturer: Analog Devices; PartNumber: AD7893ARZ-2REEL7; Resolution (Bits): 12; Channels: 1; Throughput Rate (SPS): 117K; Interface: Ser; DatasheetVersion: Rev.E; PackageVersion: 060506-A; PackageReference: R-8; PackageDescription: 8-Lead Standard Small Outline Package [SOIC_N] Narrow Body; Supplier 1: Digi-Key; Supplier Part Number 1: AD7893ARZ-2REEL7-ND; Supplier 2: Mouser; Supplier Part Number 2: 584-AD7893ARZ-2R7; RoHS: Y; Packing: Reel; Mounting Technology: Surface Mount; Code_JEDEC: MS-012-AA; Code_IPC: SOIC127P600-8; ComponentLink1Description: Manufacturer URL; ComponentLink1URL: http://www.analog.com/en/index.html; ComponentLink2Description: Datasheet; ComponentLink2URL: http://www.analog.com/static/imported-files/data_sheets/AD7893.pdf; ComponentLink3Description: Package Specification; ComponentLink3URL: http://www.analog.com/static/imported-files/packages/PKG_PDF/SOIC_Narrow%20(R)/R_8.pdf; ComponentLink4Description: Product URL; ComponentLink4URL: http://www.analog.com/en/analog-to-digital-converters/ad-converters/ad7893/products/product.html
footprint R-8_N (SOIC, 8-Leads, Body 4.9x3.9mm, Pitch 1.27mm, IPC Medium Density)
footprint R-8_L (SOIC, 8-Leads, Body 4.9x3.9mm, Pitch 1.27mm, IPC High Density)
footprint R-8_M (SOIC, 8-Leads, Body 4.9x3.9mm, Pitch 1.27mm, IPC Low Density)
pins: 1 REF IN (in) "Voltage Reference Input. An external reference source should be connected to this pin to provide the reference voltage for the AD7893’s conversion process. The REF IN input is buffered on-chip. The nominal reference voltage (See Datasheet)", 2 VIN (in) "Analog Input Channel. The analog input range is +/-10 V (AD7893-10), +/-2.5 V (AD7893-3), 0 V to +5 V (AD7893-5) and 0 V to +2.5 V (AD7893-2).", 3 AGND (power) "Analog Ground. Ground reference for track/hold, comparator and DAC", 4 SCLK (in) "Serial Clock Input. An external serial clock is applied to this input to obtain serial data from the AD7893. A new serial data bit is clocked out on the rising edge of this serial clock, and data is valid on the falling edge.(See Datasheet)", 5 SDATA (hiz) "Serial Data Output. Serial data from the AD7893 is provided at this output. The serial data is clocked out by the rising edge of SCLK and is valid on the falling edge of SCLK. Sixteen bits of serial data are provided with (See Datasheet)", 6 DGND (power) "Digital Ground. Ground reference for digital circuitry.", 7 ~{CONVST} (in) "Convert Start. Edge-triggered logic input. On the falling edge of this input, the serial clock counter is reset to zero. On the rising edge of this input, the track/hold goes into its hold mode and conversion is initiated.", 8 VDD (power) "Positive supply voltage, +5 V +/- 5%"

## AD7893ARZ-3
designator U?
Single 12-Bit Analog-to-Digital Converter with Serial Interface, 6 us, LC2MOS, 117KSPS, 0 to +70 degC, R-8, Pb-Free, Tube; Generic Part Number: AD7893; Manufacturer: Analog Devices; PartNumber: AD7893ARZ-3; Resolution (Bits): 12; Channels: 1; Throughput Rate (SPS): 117K; Interface: Ser; DatasheetVersion: Rev.E; PackageVersion: 060506-A; PackageReference: R-8; PackageDescription: 8-Lead Standard Small Outline Package [SOIC_N] Narrow Body; Supplier 1: Digi-Key; Supplier Part Number 1: AD7893ARZ-3-ND; Supplier 2: Newark; Supplier Part Number 2: 59K5890; Supplier 3: Mouser; Supplier Part Number 3: 584-AD7893ARZ-3; RoHS: Y; Packing: Tube; Mounting Technology: Surface Mount; Code_JEDEC: MS-012-AA; Code_IPC: SOIC127P600-8; ComponentLink1Description: Manufacturer URL; ComponentLink1URL: http://www.analog.com/en/index.html; ComponentLink2Description: Datasheet; ComponentLink2URL: http://www.analog.com/static/imported-files/data_sheets/AD7893.pdf; ComponentLink3Description: Package Specification; ComponentLink3URL: http://www.analog.com/static/imported-files/packages/PKG_PDF/SOIC_Narrow%20(R)/R_8.pdf; ComponentLink4Description: Product URL; ComponentLink4URL: http://www.analog.com/en/analog-to-digital-converters/ad-converters/ad7893/products/product.html
footprint R-8_N (SOIC, 8-Leads, Body 4.9x3.9mm, Pitch 1.27mm, IPC Medium Density)
footprint R-8_L (SOIC, 8-Leads, Body 4.9x3.9mm, Pitch 1.27mm, IPC High Density)
footprint R-8_M (SOIC, 8-Leads, Body 4.9x3.9mm, Pitch 1.27mm, IPC Low Density)
pins: 1 REF IN (in) "Voltage Reference Input. An external reference source should be connected to this pin to provide the reference voltage for the AD7893’s conversion process. The REF IN input is buffered on-chip. The nominal reference voltage (See Datasheet)", 2 VIN (in) "Analog Input Channel. The analog input range is +/-10 V (AD7893-10), +/-2.5 V (AD7893-3), 0 V to +5 V (AD7893-5) and 0 V to +2.5 V (AD7893-2).", 3 AGND (power) "Analog Ground. Ground reference for track/hold, comparator and DAC", 4 SCLK (in) "Serial Clock Input. An external serial clock is applied to this input to obtain serial data from the AD7893. A new serial data bit is clocked out on the rising edge of this serial clock, and data is valid on the falling edge.(See Datasheet)", 5 SDATA (hiz) "Serial Data Output. Serial data from the AD7893 is provided at this output. The serial data is clocked out by the rising edge of SCLK and is valid on the falling edge of SCLK. Sixteen bits of serial data are provided with (See Datasheet)", 6 DGND (power) "Digital Ground. Ground reference for digital circuitry.", 7 ~{CONVST} (in) "Convert Start. Edge-triggered logic input. On the falling edge of this input, the serial clock counter is reset to zero. On the rising edge of this input, the track/hold goes into its hold mode and conversion is initiated.", 8 VDD (power) "Positive supply voltage, +5 V +/- 5%"